# EAGLE library part AD7606BSTZ-4 (library nw2s)
Bipolar Input, Simultaneous Sampling ADC
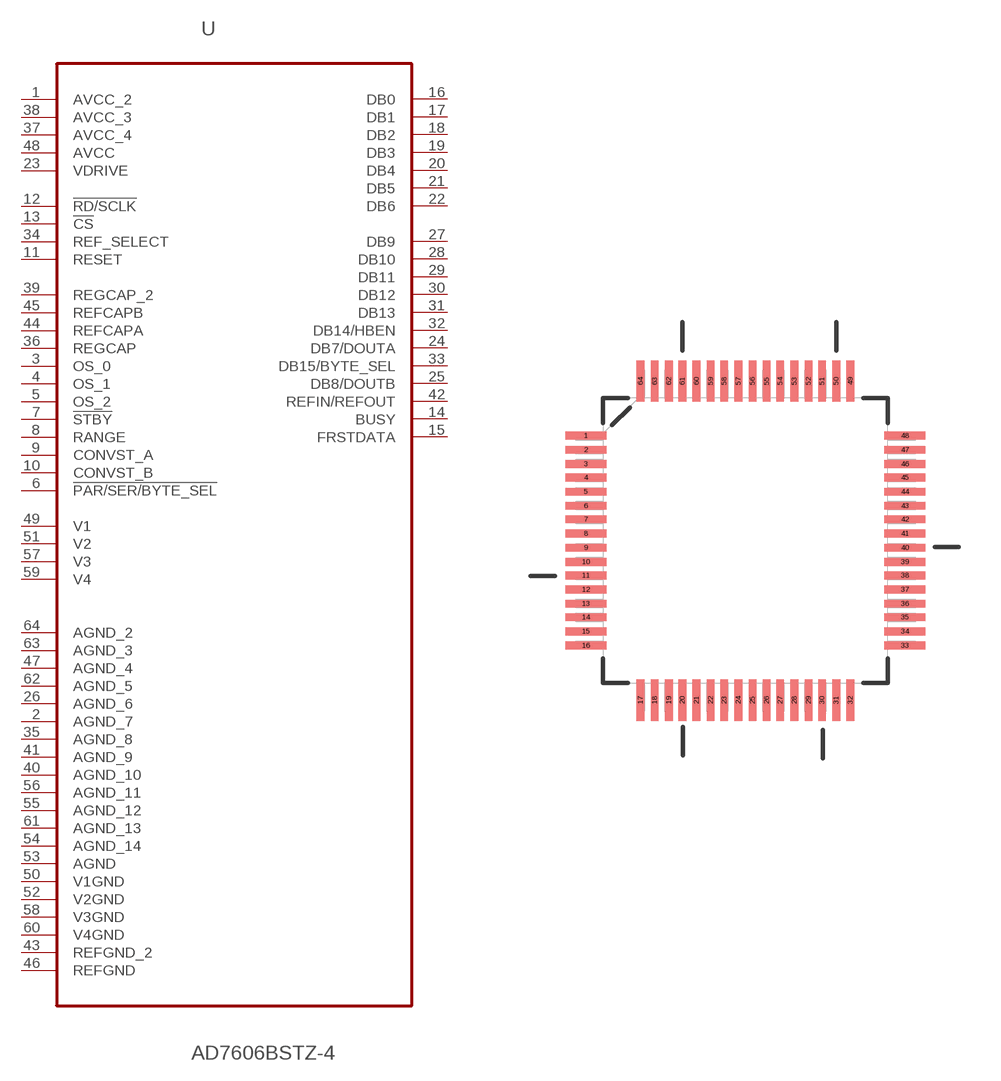
[diagram p22: symbol with the pads of QFP50P1200X1200X160-64N; footprint QFP50P1200X1200X160-64N]

Designator prefix U

## AD7606BSTZ-4 (MPN: AD7606BSTZ-4; OC_FARNELL: 2295975; OC_NEWARK: 76R7616; PACKAGE: LQFP-64; SUPPLIER: Analog Devices)  [QFP50P1200X1200X160-64N]
1  AVCC_2  pwr
2  AGND_7  pas
3  OS_0  in
4  OS_1  in
5  OS_2  in
6  !PAR/SER/BYTE_SEL  in
7  !STBY  in
8  RANGE  in
9  CONVST_A  in
10  CONVST_B  in
11  RESET  in
12  !RD/SCLK  in
13  !CS  in
14  BUSY  out
15  FRSTDATA  out
16  DB0  out
17  DB1  out
18  DB2  out
19  DB3  out
20  DB4  out
21  DB5  out
22  DB6  out
23  VDRIVE  pwr
24  DB7/DOUTA  out
25  DB8/DOUTB  out
26  AGND_6  pas
27  DB9  out
28  DB10  out
29  DB11  out
30  DB12  out
31  DB13  out
32  DB14/HBEN  out
33  DB15/BYTE_SEL  out
34  REF_SELECT  in
35  AGND_8  pas
36  REGCAP  pas
37  AVCC_4  pwr
38  AVCC_3  pwr
39  REGCAP_2  pas
40  AGND_10  pas
41  AGND_9  pas
42  REFIN/REFOUT  out
43  REFGND_2  pas
44  REFCAPA  pas
45  REFCAPB  pas
46  REFGND  pas
47  AGND_4  pas
48  AVCC  pwr
49  V1  in
50  V1GND  pas
51  V2  in
52  V2GND  pas
53  AGND  pas
54  AGND_14  pas
55  AGND_12  pas
56  AGND_11  pas
57  V3  in
58  V3GND  pas
59  V4  in
60  V4GND  pas
61  AGND_13  pas
62  AGND_5  pas
63  AGND_3  pas
64  AGND_2  pas

## Footprint QFP50P1200X1200X160-64N (pad centres in mm)
smd 1.473 x 0.279: 1 -5.715,3.759; 2 -5.715,3.251; 3 -5.715,2.743; 4 -5.715,2.261; 5 -5.715,1.753; 6 -5.715,1.245; 7 -5.715,0.762; 8 -5.715,0.254; 9 -5.715,-0.254; 10 -5.715,-0.762; 11 -5.715,-1.245; 12 -5.715,-1.753; 13 -5.715,-2.261; 14 -5.715,-2.743; 15 -5.715,-3.251; 16 -5.715,-3.759; 33 5.715,-3.759; 34 5.715,-3.251; 35 5.715,-2.743; 36 5.715,-2.261; 37 5.715,-1.753; 38 5.715,-1.245; 39 5.715,-0.762; 40 5.715,-0.254; 41 5.715,0.254; 42 5.715,0.762; 43 5.715,1.245; 44 5.715,1.753; 45 5.715,2.261; 46 5.715,2.743; 47 5.715,3.251; 48 5.715,3.759
smd 0.279 x 1.473: 17 -3.759,-5.715; 18 -3.251,-5.715; 19 -2.743,-5.715; 20 -2.261,-5.715; 21 -1.753,-5.715; 22 -1.245,-5.715; 23 -0.762,-5.715; 24 -0.254,-5.715; 25 0.254,-5.715; 26 0.762,-5.715; 27 1.245,-5.715; 28 1.753,-5.715; 29 2.261,-5.715; 30 2.743,-5.715; 31 3.251,-5.715; 32 3.759,-5.715; 49 3.759,5.715; 50 3.251,5.715; 51 2.743,5.715; 52 2.261,5.715; 53 1.753,5.715; 54 1.245,5.715; 55 0.762,5.715; 56 0.254,5.715; 57 -0.254,5.715; 58 -0.762,5.715; 59 -1.245,5.715; 60 -1.753,5.715; 61 -2.261,5.715; 62 -2.743,5.715; 63 -3.251,5.715; 64 -3.759,5.715